# EAGLE library part MCP2200 (library microchip2)
USB 2.0 to UART Protocol Converter with GPIO
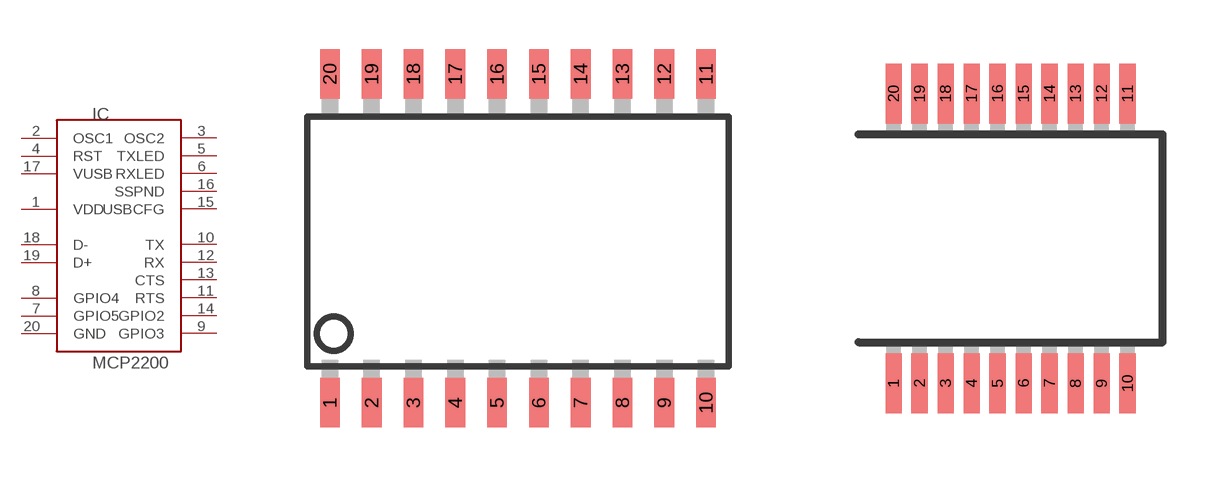
[diagram p160: symbol with the pads of SOIC20; footprints SOIC20, SSOP20]

Designator prefix IC

## MCP2200SOIC20  [SOIC20]
1  VDD
2  OSC1
3  OSC2
4  RST
5  TXLED
6  RXLED
7  GPIO5
8  GPIO4
9  GPIO3
10  TX
11  RTS
12  RX
13  CTS
14  GPIO2
15  USBCFG
16  SSPND
17  VUSB
18  D-
19  D+
20  GND

## MCP2200  [SSOP20]
Pads as for SOIC20

## MCP2200QFN20  [QFN20-5X5]
P$1  RST
P$2  TXLED
P$3  RXLED
P$4  GPIO5
P$5  GPIO4
P$6  GPIO3
P$7  TX
P$8  RTS
P$9  RX
P$10  CTS
P$11  GPIO2
P$12  USBCFG
P$13  SSPND
P$14  VUSB
P$15  D-
P$16  D+
P$17  GND
P$18  VDD
P$19  OSC1
P$20  OSC2

## Footprint SOIC20 (pad centres in mm)
Plastic Small Outline Package package type SO
smd 0.6 x 1.5: 1 -5.715,-5; 2 -4.445,-5; 3 -3.175,-5; 4 -1.905,-5; 5 -0.635,-5; 6 0.635,-5; 7 1.905,-5; 8 3.175,-5; 9 4.445,-5; 10 5.715,-5; 11 5.715,5; 12 4.445,5; 13 3.175,5; 14 1.905,5; 15 0.635,5; 16 -0.635,5; 17 -1.905,5; 18 -3.175,5; 19 -4.445,5; 20 -5.715,5

## Footprint SSOP20 (pad centres in mm)
Shrink Small Outline Package package type SS
smd 0.4 x 1.5: 1 -2.925,-3.625; 2 -2.275,-3.625; 3 -1.625,-3.625; 4 -0.975,-3.625; 5 -0.325,-3.625; 6 0.325,-3.625; 7 0.975,-3.625; 8 1.625,-3.625; 9 2.275,-3.625; 10 2.925,-3.625; 11 2.925,3.625; 12 2.275,3.625; 13 1.625,3.625; 14 0.975,3.625; 15 0.325,3.625; 16 -0.325,3.625; 17 -0.975,3.625; 18 -1.625,3.625; 19 -2.275,3.625; 20 -2.925,3.625

## Footprint QFN20-5X5 (pad centres in mm)
20-Lead Plastic Quad Flat,No Lead Package (MQ)-5x5 mm
smd 0.55 x 0.4: P$1 -2.25,1.3; P$2 -2.25,0.65; P$3 -2.25,0; P$4 -2.25,-0.65; P$5 -2.25,-1.3; P$11 2.25,-1.3; P$12 2.25,-0.65; P$13 2.25,0; P$14 2.25,0.65; P$15 2.25,1.3
smd 0.4 x 0.55: P$6 -1.3,-2.25; P$7 -0.65,-2.25; P$8 0,-2.25; P$9 0.65,-2.25; P$10 1.3,-2.25; P$16 1.3,2.25; P$17 0.65,2.25; P$18 0,2.25; P$19 -0.65,2.25; P$20 -1.3,2.25